# Altium footprint library 1751413.PcbLib: 1 footprints
Each footprint in its own frame and in the unit in brackets; x right, y up, seen from the top. Pads: shape width x height; smd on the part's side, far side on the other; paste and mask are expansions set on the pad; w line width, h text height; cw(c..) or ccw(c..) is an arc to the next point about the centre after c.
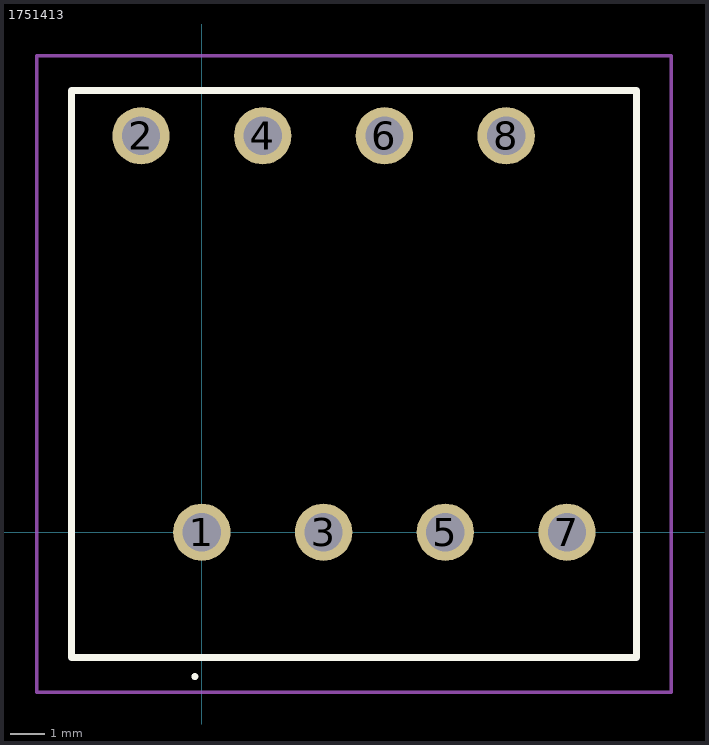
[diagram p0: the footprint, top view; thin cyan lines are the x and y axes]

## 1751413 [mm]
pads (8):
  round 1.65 hole 1.1: 1(0,0) 2(-1.75,11.4) 3(3.5,0) 4(1.75,11.4) 5(7,0) 6(5.25,11.4) 7(10.5,0) 8(8.75,11.4)
Top Overlay:
  lines w0.1: -0.2,-4.2 -0.2,-4.2 ; -0.2,-4.2 ccw(c-0.2,-4.15) -0.2,-4.1 ; -0.2,-4.2 cw(c-0.2,-4.15) -0.2,-4.1 ; -0.2,-4.1 -0.2,-4.1
  lines w0.2: -3.75,-3.6 12.5,-3.6 12.5,12.7 -3.75,12.7 -3.75,-3.6
Mechanical 15:
  lines w0.1: -3.75,-3.6 12.5,-3.6 12.5,12.7 -3.75,12.7 -3.75,-3.6
Mechanical 20:
  lines w0.1: -4.75,-4.6 13.5,-4.6 13.5,13.7 -4.75,13.7 -4.75,-4.6